# EAGLE library part D8-3A (library aq-diode)
4 DIODES SIL, anode marked
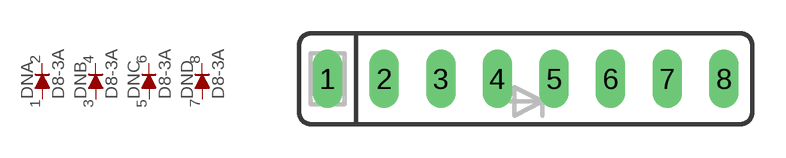
[diagram p0: symbol with the pads of SIL08A; footprint SIL08A]

Designator prefix DN; gates A=DN B=DN C=DN D=DN

## D8-3A  [SIL08A]
1  A:A  pas
2  A:C  pas
3  B:A  pas
4  B:C  pas
5  C:A  pas
6  C:C  pas
7  D:A  pas
8  D:C  pas

## Footprint SIL08A (pad centres in mm)
7 DIODES single in line 7 diodes with common anode
drill 0.813 long: 1 -8.89,0; 2 -6.35,0; 3 -3.81,0; 4 -1.27,0; 5 1.27,0; 6 3.81,0; 7 6.35,0; 8 8.89,0